# EAGLE library part SY100EPT22 (library lstolcman_thesis)
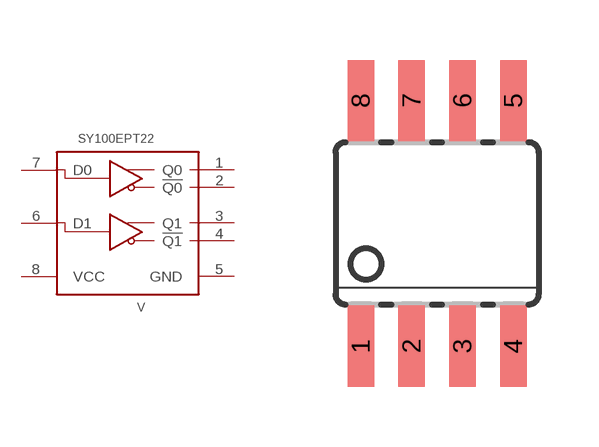
[diagram p4: symbol with the pads of SOIC8; footprint SOIC8]

Designator prefix V

## SY100EPT22  [SOIC8]
1  Q0
2  !Q0
3  Q1
4  !Q1
5  GND
6  D1
7  D0
8  VCC

## Footprint SOIC8 (pad centres in mm)
smd 0.66 x 2.032: 1 -1.905,-3.073; 2 -0.635,-3.073; 3 0.635,-3.073; 4 1.905,-3.073; 5 1.905,3.073; 6 0.635,3.073; 7 -0.635,3.073; 8 -1.905,3.073